# EAGLE library part AQW_ (library Relay)
PhotoMOS - Solid State Relays
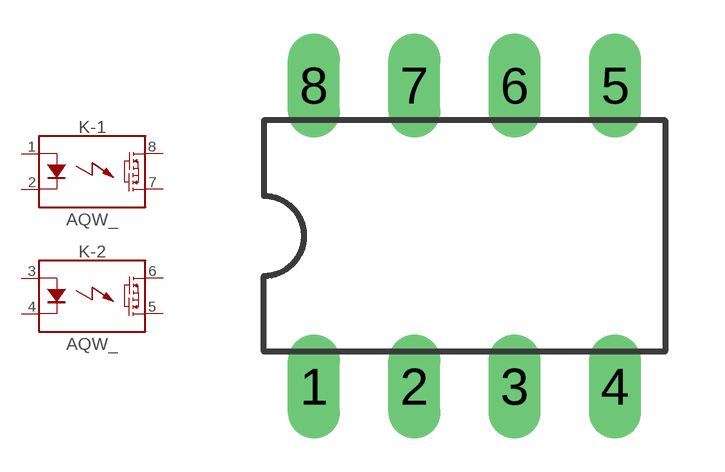
[diagram p0: symbol with the pads of DIL08; footprint DIL08]

Designator prefix K; gates -1=PHOTO-RELAY-2S -2=PHOTO-RELAY-2S

## AQW_AQW210EH (CATEGORY: Relay; DESCRIPTION: SSR RELAY SPST-NO 120MA 0-350V; MANUFACTURER: Panasonic Electric Works; MPN: AQW210EH; SUB-CATEGORY: Solid-State; TYPE: SPST), AQW_AQW212 (CATEGORY: Relay; DESCRIPTION: SSR RELAY SPST-NO 500MA 0-60V; MANUFACTURER: Panasonic Electric Works; MPN: AQW212; SUB-CATEGORY: Solid-State; TYPE: SPST), AQW_AQW215 (CATEGORY: Relay; DESCRIPTION: SSR RELAY SPST-NO 300MA 0-100V; MANUFACTURER: Panasonic Electric Works; MPN: AQW215; SUB-CATEGORY: Solid-State; TYPE: SPST), AQW_AQW284EH (CATEGORY: Relay; DESCRIPTION: SSR RELAY SPST-NO 100MA 0-400V; MANUFACTURER: Panasonic Electric Works; MPN: AQW284EH; SUB-CATEGORY: Solid-State; TYPE: SPST), AQW_AQW414 (CATEGORY: Relay; DESCRIPTION: SSR RELAY SPST-NC 100MA 0-400V; MANUFACTURER: Panasonic Electric Works; MPN: AQW414; SUB-CATEGORY: Solid-State; TYPE: SPST), AQW_AQW610EH (CATEGORY: Relay; DESCRIPTION: RELAY SPST-NO/NC 120MA 0-350V; MANUFACTURER: Panasonic Electric Works; MPN: AQW610EH; SUB-CATEGORY: Solid-State; TYPE: SPST), AQW_AQW614EH (CATEGORY: Relay; DESCRIPTION: SSR RELAY SPST-NO 120MA 0-350V; MANUFACTURER: Panasonic Electric Works; MPN: AQW614EH; SUB-CATEGORY: Solid-State; TYPE: SPST)  [DIL08]
1  -1:A  pas
2  -1:K  pas
3  -2:A  pas
4  -2:K  pas
5  -2:D2  pas
6  -2:D1  pas
7  -1:D2  pas
8  -1:D1  pas

## Footprint DIL08 (pad centres in mm)
Dual In Line Package
drill 0.813 long: 1 -3.81,-3.81; 2 -1.27,-3.81; 3 1.27,-3.81; 4 3.81,-3.81; 5 3.81,3.81; 6 1.27,3.81; 7 -1.27,3.81; 8 -3.81,3.81